# EAGLE library part MD03SSP (library con-yamaichi)
YAMAICHI CONNECTOR
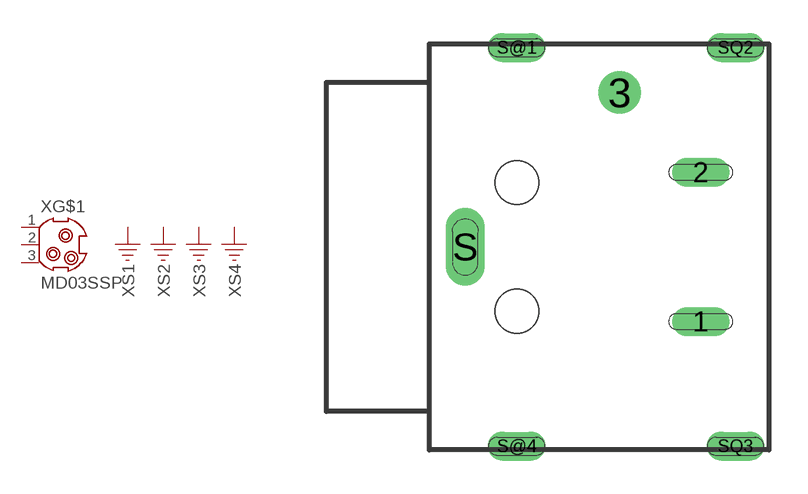
[diagram p2: symbol with the pads of MD03SSP; footprint MD03SSP]

Designator prefix X; gates G$1=MD03SSP S1=SHIELD S2=SHIELD S3=SHIELD S4=SHIELD

## MD03SSP (OC_FARNELL: unknown; OC_NEWARK: unknown)  [MD03SSP]
1  G$1:1  pas
2  G$1:2  pas
3  G$1:3  pas
S@1  S4:1  pas
S@4  S3:1  pas
SQ2  S2:1  pas
SQ3  S1:1  pas

## Footprint MD03SSP (pad centres in mm)
Mini Din YAMAICHI CONNECTOR
drill 0.61 long: 1 3.65,-2.9; 2 3.65,2.9; S@1 -3.5,7.75; S@4 -3.5,-7.75; SQ2 5,7.75; SQ3 5,-7.75
drill 1.1: 3 0.5,6
drill 1 long: S -5.5,0
hole 1.7 at -3.5,-2.5
hole 1.7 at -3.5,2.5